# Altium footprint library DO214.PcbLib: 6 footprints
Each footprint in its own frame and in the unit in brackets; x right, y up, seen from the top. Pads: shape width x height; smd on the part's side, far side on the other; paste and mask are expansions set on the pad; w line width, h text height; cw(c..) or ccw(c..) is an arc to the next point about the centre after c.
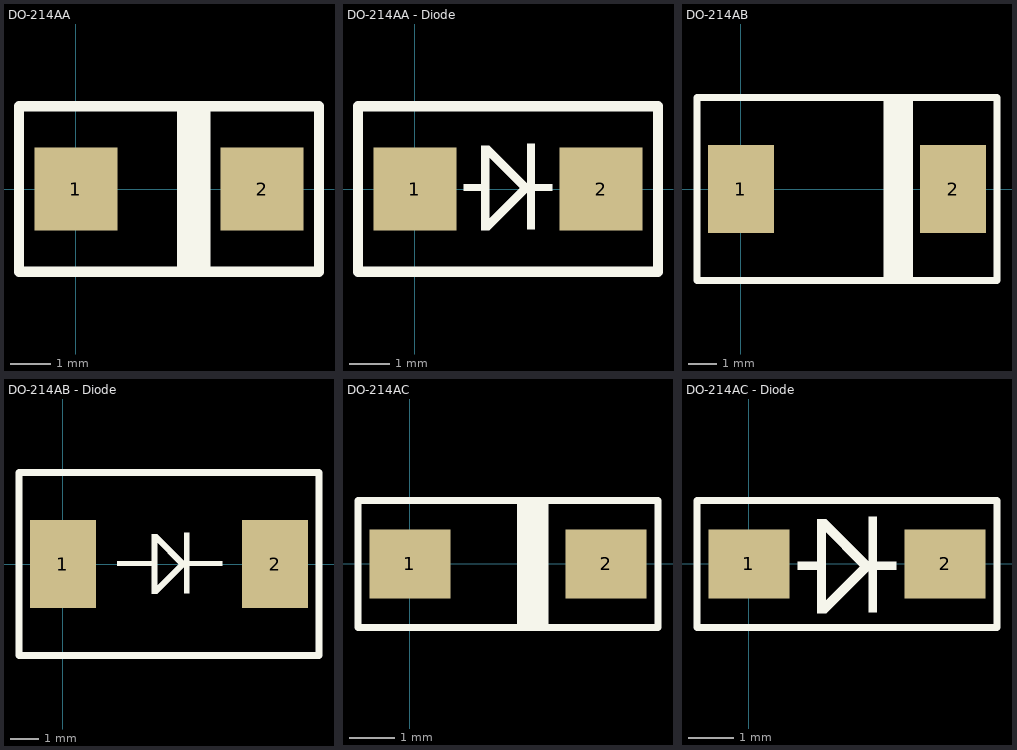
[diagram p0: the footprints below, top view; thin cyan lines are the x and y axes]

## DO-214AA [mil]
pads (2):
  rect 80x80 smd: 1(0,0) 2(180,0)
TopOverlay:
  rectangle: 97.5,-80 130,80
  lines w10: -55,-80 -55,80 235,80 235,-80 -55,-80

## DO-214AA - Diode [mil]
pads (2):
  rect 80x80 smd: 1(0,0) 2(180,0)
TopOverlay:
  region: 133,-2 133,5 114,5 114,-2
  region: 105.57,-3.58 111.58,2.42 72,42 65.99,35.99
  region: 65,-2 65,5 47,5 47,-2
  rectangle: 108.5,-39 116,44
  rectangle: 64,-40 72,42
  region: 111.61,-0.46 105.61,5.55 66.03,-34.03 72.04,-40.04
  lines w10: -55,-80 -55,80 235,80 235,-80 -55,-80

## DO-214AB [mil]
pads (2):
  rect 90x120 smd: 1(0,0) 2(290,0)
TopOverlay:
  rectangle: 195,-120 235,120
  lines w10: -60,-125 -60,125 350,125 350,-125 -60,-125

## DO-214AB - Diode [mil]
pads (2):
  rect 90x120 smd: 1(0,0) 2(290,0)
TopOverlay:
  region: 168.61,-1.46 162.61,4.55 123.03,-35.03 129.04,-41.04
  rectangle: 121,-41 129,41
  rectangle: 165.5,-40 173,43
  region: 122,-3 122,4 74,4 74,-3
  region: 162.57,-4.58 168.58,1.42 129,41 122.99,34.99
  region: 218,-3 218,4 171,4 171,-3
  lines w10: -60,-125 -60,125 350,125 350,-125 -60,-125

## DO-214AC [mil]
pads (2):
  rect 70x60 smd: 1(0,0) 2(170,0)
TopOverlay:
  rectangle: 93,-55 120,55
  lines w6: -45,-55 215,-55 215,55 -45,55 -45,-55

## DO-214AC - Diode [mil]
pads (2):
  rect 70x60 smd: 1(0,0) 2(170,0)
TopOverlay:
  region: 128,-5 128,2 109,2 109,-5
  region: 100.57,-6.58 106.58,-0.58 67,39 60.99,32.99
  region: 60,-5 60,2 42,2 42,-5
  rectangle: 103.5,-42 111,41
  rectangle: 59,-43 67,39
  region: 106.61,-3.46 100.61,2.55 61.03,-37.03 67.04,-43.04
  lines w6: -45,-55 -45,55 215,55 215,-55 -45,-55